# Altium schematic symbol library NC7WZ07.SchLib: 1 symbol
Pins are listed as number, name and electrical type; pins without a type are passive.

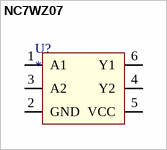
[diagram p0: symbol NC7WZ07]

## NC7WZ07
designator U?
pins: 1 A1, 2 GND, 3 A2, 4 Y2, 5 VCC, 6 Y1